# Altium footprint library Footprints.PcbLib: 9 footprints
Each footprint in its own frame and in the unit in brackets; x right, y up, seen from the top. Pads: shape width x height; smd on the part's side, far side on the other; paste and mask are expansions set on the pad; w line width, h text height; cw(c..) or ccw(c..) is an arc to the next point about the centre after c.
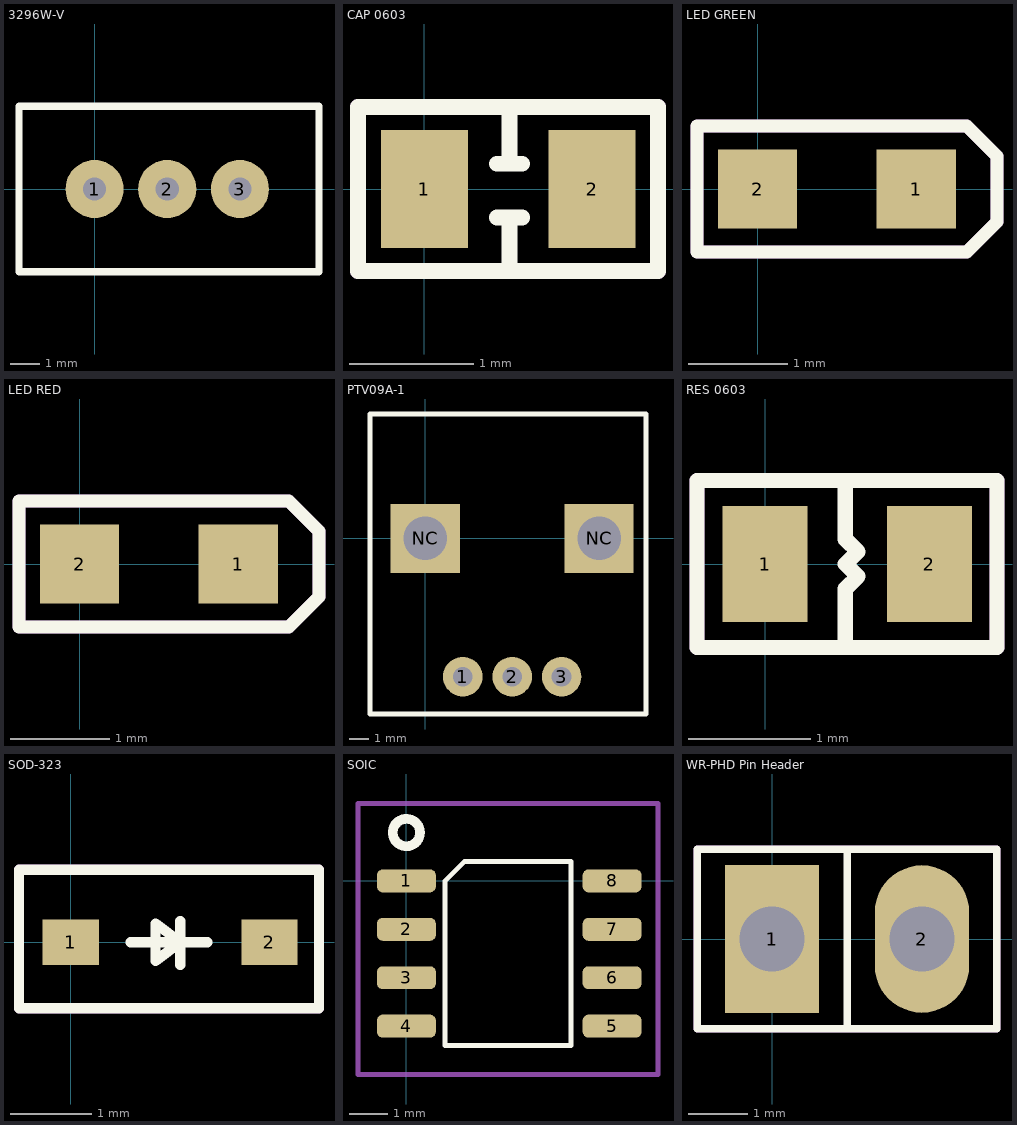
[diagram p0: the footprints below, top view; thin cyan lines are the x and y axes]

## 3296W-V [mm]
pads (3):
  round 2 hole 0.8: 1(0,0) 2(2.5,0) 3(5,0)
Top Overlay:
  lines w0.254: -2.6,-2.845 7.722,-2.845 7.722,2.845 -2.6,2.845 -2.6,-2.845
3D body "3296W-V.stp": height 11.5, standoff -2.7, extent -2.21,-2.4 7.29,2.4

## CAP 0603 [mm]
pads (2):
  rect 0.7x0.95 smd: 1(0,0) 2(1.35,0)
Top Overlay:
  lines w0.127: 0.584,-0.229 0.787,-0.229 ; 0.584,0.203 0.787,0.203 ; 0.686,-0.61 0.686,-0.254 ; 0.686,0.203 0.686,0.66 ; -0.533,-0.66 1.88,-0.66 1.88,0.66 -0.533,0.66 -0.533,-0.66
Top Courtyard:
  lines w0.127: -0.533,-0.66 1.88,-0.66 1.88,0.66 -0.533,0.66 -0.533,-0.66
3D body "Ceramic_Capacitor_0603_h32mil.step": height 0.81, standoff 0.01, extent -0.127,-0.4 1.473,0.4

## LED GREEN [mm]
pads (2):
  rect 0.8x0.8 smd: 1(1.6,0) 2(0,0)
Top Overlay:
  lines w0.127: -0.61,-0.635 -0.61,0.635 2.108,0.635 2.413,0.33 2.413,-0.33 2.108,-0.635 -0.61,-0.635
Top Courtyard:
  lines w0.127: -0.61,-0.635 2.108,-0.635 2.413,-0.33 2.413,0.33 2.108,0.635 -0.61,0.635 -0.61,-0.635
3D body "0603 Green.step": height 0.55, standoff 0, extent 0.013,-0.406 1.613,0.394

## LED RED [mm]
pads (2):
  rect 0.8x0.8 smd: 1(1.6,0) 2(0,0)
Top Overlay:
  lines w0.127: -0.61,-0.635 2.108,-0.635 2.413,-0.33 2.413,0.33 2.108,0.635 -0.61,0.635 -0.61,-0.635
Top Courtyard:
  lines w0.127: -0.61,-0.635 -0.61,0.635 2.108,0.635 2.413,0.33 2.413,-0.33 2.108,-0.635 -0.61,-0.635
3D body "0603 Red.step": height 0.55, standoff 0, extent 0.013,-0.4 1.613,0.4

## PTV09A-1 [mm]
pads (5):
  round 2 hole 1: 1(1.9,-7) 2(4.4,-7) 3(6.9,-7)
  rect 3.5x3.5 hole 2.2 square: NC(0,0) NC(8.8,0)
Top Overlay:
  lines w0.254: -2.802,-8.89 -2.794,-8.763 -2.794,6.299 11.176,6.299 11.176,-8.89 -2.802,-8.89
3D body "R-0904N-L-20F-green.step": height 20, standoff -3.8, extent -1.314,-7.317 10.008,5.283

## RES 0603 [mm]
pads (2):
  rect 0.7x0.95 smd: 1(0,0) 2(1.35,0)
Top Overlay:
  lines w0.127: 0.66,-0.635 0.66,-0.406 0.66,-0.203 0.762,-0.102 0.66,0 0.762,0.102 0.66,0.203 0.66,0.406 0.66,0.635 ; -0.559,-0.686 1.905,-0.686 1.905,0.686 -0.381,0.686 -0.559,0.686 -0.559,-0.686
Top Courtyard:
  lines w0.127: -0.559,-0.686 -0.559,0.686 1.905,0.686 1.905,-0.686 -0.559,-0.686
3D body "Resistor_0603_Ohm.step": height 0.47, standoff 0.01, extent -0.14,-0.4 1.46,0.4

## SOD-323 [mm]
pads (2):
  rect 0.69x0.56 smd: 1(0,0) 2(2.44,0)
Top Overlay:
  lines w0.127: 0.737,0 1.346,0 ; 1.346,-0.279 1.346,0.254 1.346,0 ; 1.346,0 1.676,0 1.346,0 ; 1.346,0 1.041,-0.229 1.041,0.229 1.346,0 ; -0.635,-0.813 -0.635,0.889 3.048,0.889 3.048,-0.813 2.127,-0.813 0.286,-0.813 -0.635,-0.813
Top Courtyard:
  lines w0.127: -0.635,-0.813 -0.635,0.889 3.048,0.889 3.048,-0.813 -0.635,-0.813
3D body "SOD-323.STEP": height 1.17, standoff 0.02, extent -0.131,-0.711 2.569,0.735

## SOIC [mm]
pads (8):
  rrect50% 1.55x0.6 smd: 1(0,0) 2(0,-1.27) 3(0,-2.54) 4(0,-3.81) 5(5.4,-3.81) 6(5.4,-2.54) 7(5.4,-1.27) 8(5.4,0)
Top Overlay:
  circle w0.254: c0,1.27 r0.359
  lines w0.127: 1.016,-4.318 4.318,-4.318 4.318,0.508 1.524,0.508 1.016,0 1.016,-0.508 1.016,-4.318
Top Courtyard:
  lines w0.127: -1.27,-5.08 6.604,-5.08 6.604,2.032 -1.27,2.032 -1.27,-5.08
3D body "soic8_p1-27_l5-0_w4-0.stp": height 1.9, standoff 0, extent -0.4,-4.405 5.8,0.595

## WR-PHD Pin Header [mm] "2 pin header connector 2.53 mm pitch"
pads (2):
  rect 1.6x2.5 hole 1.1: 1(0,0)
  oval 1.6x2.5 hole 1.1: 2(2.54,0)
Top Overlay:
  lines w0.127: 1.27,-1.524 1.27,1.524 ; -1.27,-1.524 3.81,-1.524 3.81,1.524 -1.27,1.524 -1.27,-1.524
Top Courtyard:
  lines w0.127: -1.27,-1.524 3.81,-1.524 ; -1.27,-1.524 -1.27,1.524 ; -1.27,-1.524 3.81,-1.524 ; -1.27,-1.524 -1.27,1.524 ; -1.27,1.524 3.81,1.524 ; -1.27,1.524 3.81,1.524 ; 3.81,-1.524 3.81,-0.762 3.81,0.762 3.81,1.524 ; 3.81,-1.524 3.81,1.524
3D body "Header, Male, 2.54mm, 1x2.STEP": height 8.54, standoff -3, extent -1.27,-1.27 3.81,1.27